# Altium schematic symbol library ic-adc-dac-dds.SchLib: 3 symbols
Pins are listed as number, name and electrical type; pins without a type are passive.

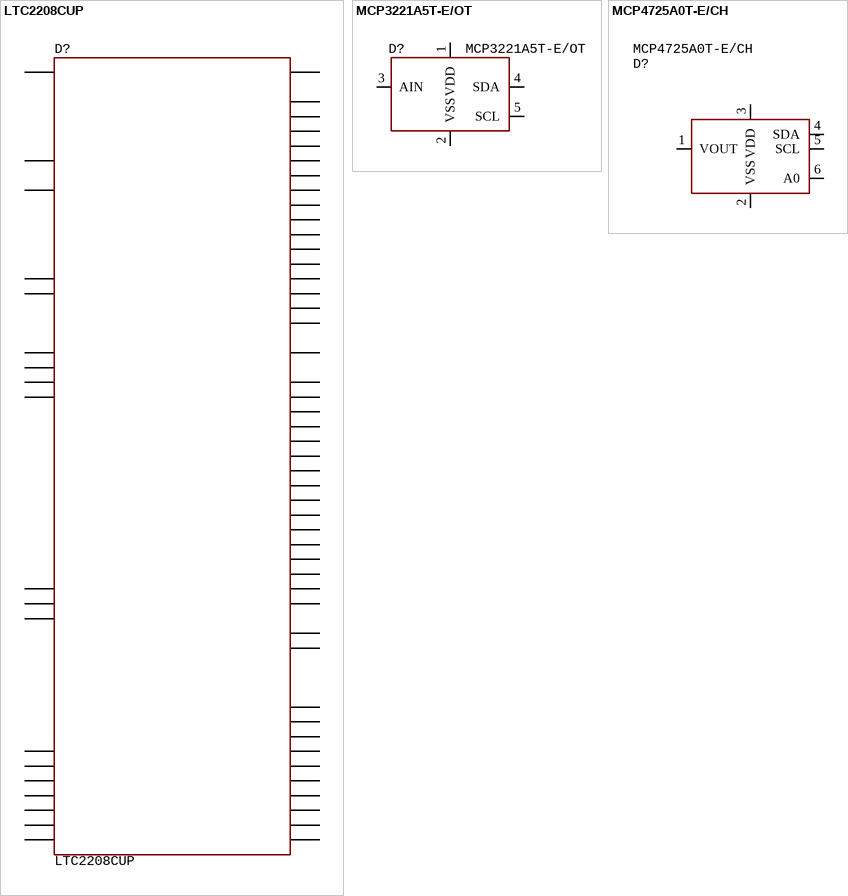
[diagram p0: symbols LTC2208CUP to MCP4725A0T-E/CH]

## LTC2208CUP
designator D?
IC ADC, 16 bit, 130 Msps, supply 3.3V, CMOS/LVDS, QFN-64, -40...+125°C; Part Number: MCP3221A5T-E/OT; Manufacturer: Microchip; HelpURL: https://ru.mouser.com/ProductDetail/Microchip-Technology/MCP3221A5T-E-OT?qs=InakTnyiSK9lljladcdZHQ%3D%3D; Package: QFN-64
footprint 64-QFN (9x9, pitch 0.5) (9x9 mm, pitch 0.5 mm, power pad)
pins: 0 GND, 1 SENSE, 2 GND, 3 VCM, 4 GND, 5 VDD, 6 VDD, 7 GND, 8 AIN+, 9 AIN-, 10 GND, 11 GND, 12 ENC+, 13 ENC-, 14 GND, 15 VDD, 16 VDD, 17 VDD, 18 GND, 19 SHDN, 20 DITH, 21 D0-/DB0, 22 D0+/DB1, 23 D1-/DB2, 24 D1+/DB3, 25 D2-/DB4, 26 D2+/DB5, 27 D3-/DB6, 28 D3+/DB7, 29 D4-/DB8, 30 D4+/DB9, 31 OGND, 32 OVDD, 33 D5-/DB10, 34 D5+/DB11, 35 D6-/DB12, 36 D6+/DB13, 37 D7-/DB14, 38 D7+/DB15, 39 CLKOUT-/OFB, 40 CLKOUT+/CLKOUTB, 41 D8-/CLKOUTA, 42 D8+/DA0, 43 D9-/DA1, 44 D9+/DA2, 45 D10-/DA3, 46 D10+/DA4, 47 D11-/DA5, 48 D11+/DA6, 49 OVDD, 50 OGND, 51 D12-/DA7, 52 D12+/DA8, 53 D13-/DA9, 54 D13+/DA10, 55 D14-/DA11, 56 D14+/DA12, 57 D15-/DA13, 58 D15+/DA14, 59 OF-/DA15, 60 OF+/OFA, 61 LVDS, 62 MODE, 63 RAND, 64 PGA

## MCP3221A5T-E/OT
designator D?
IC ADC, 12 bit, SAR 22.3 kS/s, 72 bB, supply 2.7...5.5V, I2C, SOT-23-5, -40...+125°C; Manufacturer: Microchip; HelpURL: https://ru.mouser.com/ProductDetail/Microchip-Technology/MCP3221A5T-E-OT?qs=InakTnyiSK9lljladcdZHQ%3D%3D; Part Number: MCP3221A5T-E/OT; PartNumber: MCP3221A5T-E/OT
footprint SOT23-5 (pitch 0.95 mm)
pins: 1 VDD, 2 VSS, 3 AIN, 4 SDA, 5 SCL

## MCP4725A0T-E/CH
designator D?
IC DAC, 12 bit, supply 2.7...5.5V, i2c, SOT-23-6, -40...+125°C; Manufacturer: Microchip; Package: SOT-23-6; HelpURL: https://ru.mouser.com/ProductDetail/Microchip-Technology/MCP4725A0T-E-CH?qs=vkMqrgFpRajeQECZ3goc0A%3D%3D; PartNumber: MCP4725A0T-E/CH
footprint SOT23-6 (pitch 0.95 mm)
pins: 1 VOUT, 2 VSS, 3 VDD, 4 SDA, 5 SCL, 6 A0